# Altium schematic symbol library ETL_RB.SCHLIB: 70 symbols
Pins are listed as number, name and electrical type; pins without a type are passive.

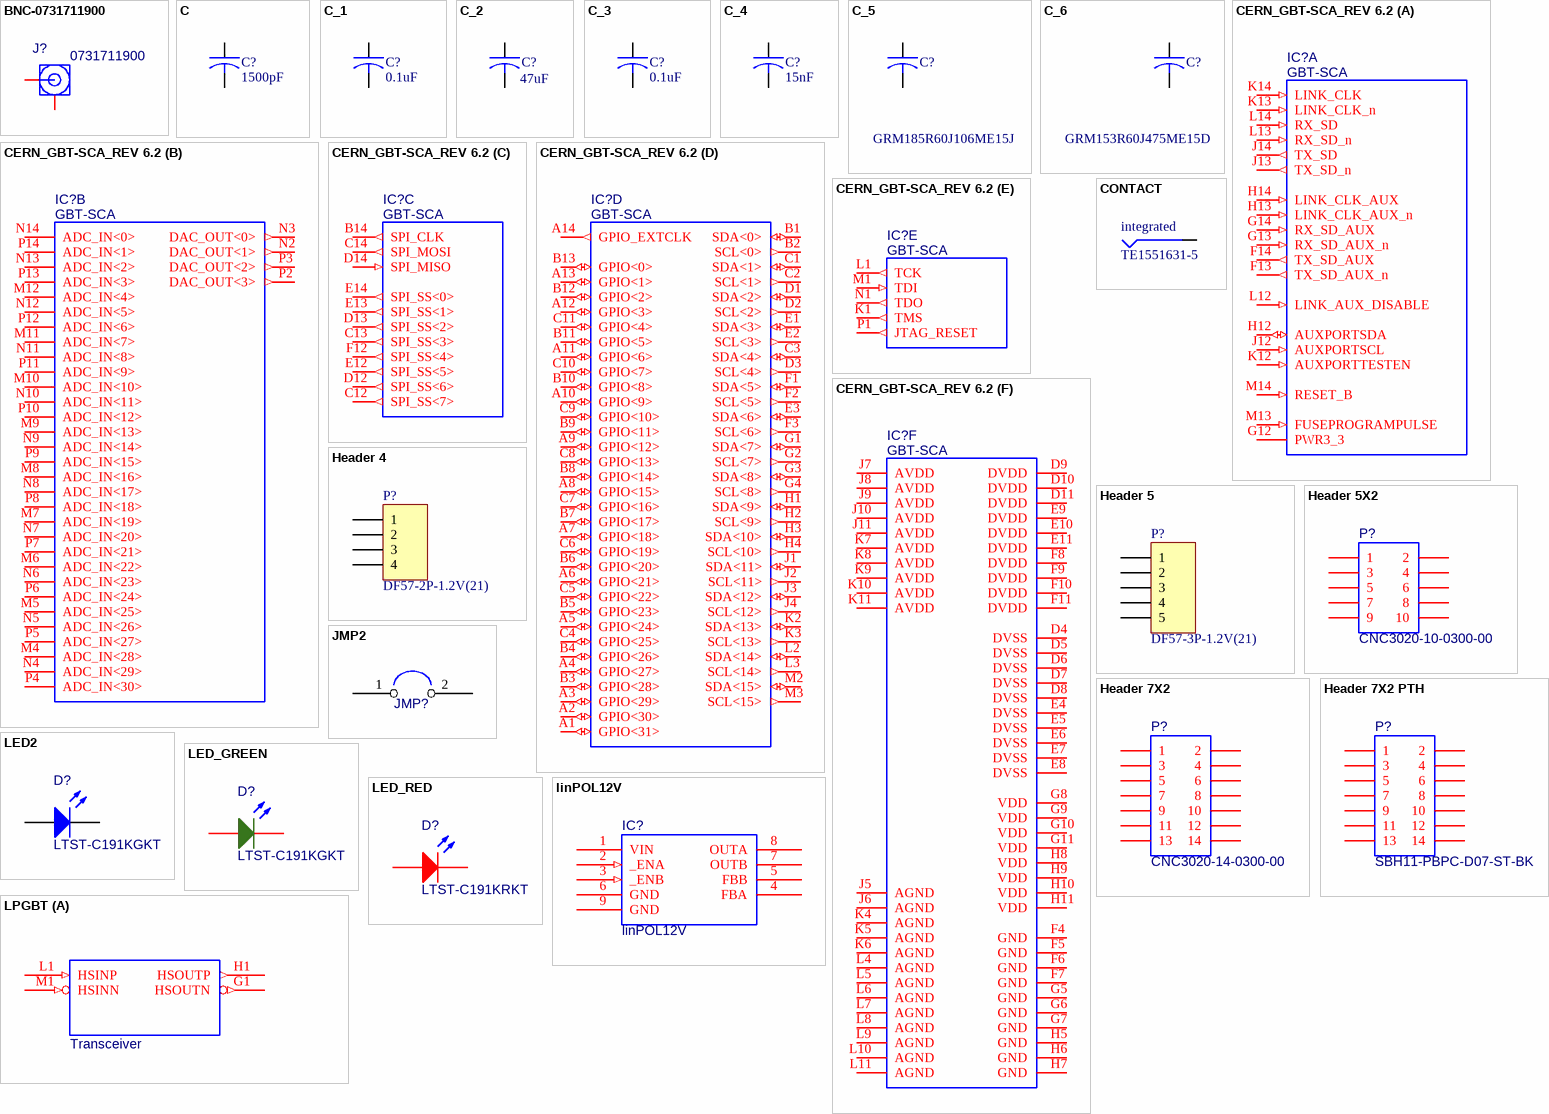
[diagram p0: symbols BNC-0731711900 to LPGBT]

## BNC-0731711900
designator J?, comment 0731711900
BNC Connector Jack, Female Socket 75Ohm Through Hole Solder
pins: 1, 2, 3, 4, 5

## C
designator C?, comment value 1500pF  (hidden comment: C0805X7R102-152MNE)
CERAMIC CAPACITOR
footprint 1206
footprint CAPC3216N (Chip Capacitor, Body 3.2x1.6mm, IPC Medium Density)
footprint venkel0805
pins: 1, 2

## C_1
designator C?, comment value 0.1uF  (hidden comment: GRM155R71E104ME14D)
CERAMIC CAPACITOR
footprint 1206
footprint capc1005n (Chip Capacitor, Body 1.0x0.5mm, IPC Medium Density)
pins: 1, 2

## C_2
designator C?, comment value 47uF  (hidden comment: GRM188R60J476ME15D)
CERAMIC CAPACITOR
footprint 1206
footprint capc2012n (Chip Capacitor, Body 2.0x1.3mm, IPC Medium Density)
pins: 1, 2

## C_3
designator C?, comment value 0.1uF  (hidden comment: GRM033R61C104KE84D)
CERAMIC CAPACITOR
footprint 1206
footprint capc1005n (Chip Capacitor, Body 1.0x0.5mm, IPC Medium Density)
footprint capc0603n (Chip Capacitor, 2-Leads, Body 0.60x0.30mm, IPC Medium Density)
pins: 1, 2

## C_4
designator C?, comment value 15nF  (hidden comment: GRM033R61C153KE84D)
CERAMIC CAPACITOR
footprint 1206
footprint capc1005n (Chip Capacitor, Body 1.0x0.5mm, IPC Medium Density)
footprint capc0603n (Chip Capacitor, 2-Leads, Body 0.60x0.30mm, IPC Medium Density)
pins: 1, 2

## C_5
designator C?, comment GRM185R60J106ME15J
CERAMIC CAPACITOR; VALUE: 10uF
footprint 1206
footprint resc1005n (Chip Resistor, Body 1.1x0.5mm, IPC Medium Density)
footprint capc1005n (Chip Capacitor, Body 1.0x0.5mm, IPC Medium Density)
footprint CAPC1608N (Chip Capacitor, Body 1.6x0.8mm, IPC Medium Density)
pins: 1, 2

## C_6
designator C?, comment GRM153R60J475ME15D
CERAMIC CAPACITOR; VALUE: 4.7uF
footprint 1206
footprint resc1005n (Chip Resistor, Body 1.1x0.5mm, IPC Medium Density)
footprint capc1005n (Chip Capacitor, Body 1.0x0.5mm, IPC Medium Density)
pins: 1, 2

## CERN_GBT-SCA_REV 6.2
designator IC?, comment GBT-SCA
The Slow Control Adapter ASIC for the GBT System; Device: GBT-SCA
footprint BGA196C80P14X14_1200X1200X170 (BGA, 0.80mm Pitch, Square; 196 Pin, 14 Columns X 14 Rows, 12.00mm X 12.00mm X 1.70mm H)
part A pins: F13 TX_SD_AUX_n (out), F14 TX_SD_AUX (out), G12 PWR3_3 (power), G13 RX_SD_AUX_n (in), G14 RX_SD_AUX (in), H12 AUXPORTSDA (io), H13 LINK_CLK_AUX_n (in), H14 LINK_CLK_AUX (in), J12 AUXPORTSCL (in), J13 TX_SD_n (out), J14 TX_SD (out), K12 AUXPORTTESTEN (in), K13 LINK_CLK_n (in), K14 LINK_CLK (in), L12 LINK_AUX_DISABLE (in), L13 RX_SD_n (in), L14 RX_SD (in), M13 FUSEPROGRAMPULSE (in), M14 RESET_B (in)
part B pins: M4 ADC_IN<28>, M5 ADC_IN<25>, M6 ADC_IN<22>, M7 ADC_IN<19>, M8 ADC_IN<16>, M9 ADC_IN<13>, M10 ADC_IN<10>, M11 ADC_IN<7>, M12 ADC_IN<4>, N2 DAC_OUT<1> (out), N3 DAC_OUT<0> (out), N4 ADC_IN<29>, N5 ADC_IN<26>, N6 ADC_IN<23>, N7 ADC_IN<20>, N8 ADC_IN<17>, N9 ADC_IN<14>, N10 ADC_IN<11>, N11 ADC_IN<8>, N12 ADC_IN<5>, N13 ADC_IN<2>, N14 ADC_IN<0>, P2 DAC_OUT<3> (out), P3 DAC_OUT<2> (out), P4 ADC_IN<30>, P5 ADC_IN<27>, P6 ADC_IN<24>, P7 ADC_IN<21>, P8 ADC_IN<18>, P9 ADC_IN<15>, P10 ADC_IN<12>, P11 ADC_IN<9>, P12 ADC_IN<6>, P13 ADC_IN<3>, P14 ADC_IN<1>
part C pins: B14 SPI_CLK (out), C12 SPI_SS<7> (out), C13 SPI_SS<3> (out), C14 SPI_MOSI (out), D12 SPI_SS<6> (out), D13 SPI_SS<2> (out), D14 SPI_MISO (in), E12 SPI_SS<5> (out), E13 SPI_SS<1> (out), E14 SPI_SS<0> (out), F12 SPI_SS<4> (out)
part D pins: A1 GPIO<31> (io), A2 GPIO<30> (io), A3 GPIO<29> (io), A4 GPIO<27> (io), A5 GPIO<24> (io), A6 GPIO<21> (io), A7 GPIO<18> (io), A8 GPIO<15> (io), A9 GPIO<12> (io), A10 GPIO<9> (io), A11 GPIO<6> (io), A12 GPIO<3> (io), A13 GPIO<1> (io), A14 GPIO_EXTCLK (out), B1 SDA<0> (io), B2 SCL<0> (out), B3 GPIO<28> (io), B4 GPIO<26> (io), B5 GPIO<23> (io), B6 GPIO<20> (io), B7 GPIO<17> (io), B8 GPIO<14> (io), B9 GPIO<11> (io), B10 GPIO<8> (io), B11 GPIO<5> (io), B12 GPIO<2> (io), B13 GPIO<0> (io), C1 SDA<1> (io), C2 SCL<1> (out), C3 SDA<4> (io), C4 GPIO<25> (io), C5 GPIO<22> (io), C6 GPIO<19> (io), C7 GPIO<16> (io), C8 GPIO<13> (io), C9 GPIO<10> (io), C10 GPIO<7> (io), C11 GPIO<4> (io), D1 SDA<2> (io), D2 SCL<2> (out), D3 SCL<4> (out), E1 SDA<3> (io), E2 SCL<3> (out), E3 SDA<6> (io), F1 SDA<5> (io), F2 SCL<5> (out), F3 SCL<6> (out), G1 SDA<7> (io), G2 SCL<7> (out), G3 SDA<8> (io), G4 SCL<8> (out), H1 SDA<9> (io), H2 SCL<9> (out), H3 SDA<10> (io), H4 SCL<10> (out), J1 SDA<11> (io), J2 SCL<11> (out), J3 SDA<12> (io), J4 SCL<12> (out), K2 SDA<13> (io), K3 SCL<13> (out), L2 SDA<14> (io), L3 SCL<14> (out), M2 SDA<15> (io), M3 SCL<15> (out)
part E pins: K1 TMS (out), L1 TCK (out), M1 TDI (in), N1 TDO (out), P1 JTAG_RESET (out)
part F pins: D4 DVSS (power), D5 DVSS (power), D6 DVSS (power), D7 DVSS (power), D8 DVSS (power), D9 DVDD (power), D10 DVDD (power), D11 DVDD (power), E4 DVSS (power), E5 DVSS (power), E6 DVSS (power), E7 DVSS (power), E8 DVSS (power), E9 DVDD (power), E10 DVDD (power), E11 DVDD (power), F4 GND (power), F5 GND (power), F6 GND (power), F7 GND (power), F8 DVDD (power), F9 DVDD (power), F10 DVDD (power), F11 DVDD (power), G5 GND (power), G6 GND (power), G7 GND (power), G8 VDD (power), G9 VDD (power), G10 VDD (power), G11 VDD (power), H5 GND (power), H6 GND (power), H7 GND (power), H8 VDD (power), H9 VDD (power), H10 VDD (power), H11 VDD (power), J5 AGND (power), J6 AGND (power), J7 AVDD (power), J8 AVDD (power), J9 AVDD (power), J10 AVDD (power), J11 AVDD (power), K4 AGND (power), K5 AGND (power), K6 AGND (power), K7 AVDD (power), K8 AVDD (power), K9 AVDD (power), K10 AVDD (power), K11 AVDD (power), L4 AGND (power), L5 AGND (power), L6 AGND (power), L7 AGND (power), L8 AGND (power), L9 AGND (power), L10 AGND (power), L11 AGND (power)

## CONTACT
designator integrated, comment TE1551631-5
footprint contact
pins: 1 (power)

## Header 4
designator P?, comment DF57-2P-1.2V(21)
Header, 4-Pin; LatestRevisionDate: 17-Jul-2002; LatestRevisionNote: Re-released for DXP Platform.; Publisher: Altium Limited
footprint HDR1X4 (Connector; Header; 4 Position)
signal-integrity model Connector
footprint BF57-2 (Footprint not found)
footprint DF57-2
pins: 1, 2, 3, 4

## Header 5
designator P?, comment DF57-3P-1.2V(21)
Header, 5-Pin; LatestRevisionDate: 17-Jul-2002; LatestRevisionNote: Re-released for DXP Platform.; Publisher: Altium Limited
footprint HDR1X5 (Connector; Header; 5 Position)
signal-integrity model Connector
footprint DF57-3
footprint df52-3
footprint DF57-3
pins: 1, 2, 3, 4, 5

## Header 5X2
designator P?, comment CNC3020-10-0300-00
Header, 5-Pin, Dual row; LatestRevisionDate: 17-Jul-2002; LatestRevisionNote: Re-released for DXP Platform.; Publisher: Altium Limited
footprint HDR2X5 (Connector; Header; 5x2 Position)
signal-integrity model Connector
footprint cnc10
pins: 1, 2, 3, 4, 5, 6, 7, 8, 9, 10

## Header 7X2
designator P?, comment CNC3020-14-0300-00
Header, 7-Pin, Dual row; LatestRevisionDate: 17-Jul-2002; LatestRevisionNote: Re-released for DXP Platform.; Publisher: Altium Limited
footprint HDR2X7 (Connector; Header; 7x2 Position)
signal-integrity model Connector
footprint cnc14
pins: 1, 2, 3, 4, 5, 6, 7, 8, 9, 10, 11, 12, 13, 14

## Header 7X2 PTH
designator P?, comment SBH11-PBPC-D07-ST-BK
Header, 7-Pin, Dual row
footprint HEADER 7x2 PTH
pins: 1, 2, 3, 4, 5, 6, 7, 8, 9, 10, 11, 12, 13, 14

## JMP2
designator JMP?, comment Not a component, printed on PCB  (value not drawn)  (no BOM)
printed on PCB
footprint JMP2
footprint JMP2B
footprint JMP2PCB
pins: 1, 2

## LED2
designator D?, comment LTST-C191KGKT
Typical RED, GREEN, YELLOW, AMBER GaAs LED; Published: 8-Jun-2000; LatestRevisionDate: 17-Jul-2002; LatestRevisionNote: Re-released for DXP Platform.; PackageVersion: Feb-2002; PackageReference: 3.2X1.6X1.1; Publisher: Altium Limited; PackageDescription: SM LED; 2 Flat Leads
footprint 3.2X1.6X1.1 (SMT LED; 2 Flat Leads)
simulation model LED2 (Diode)
footprint LED_RED (LTST-C194KRKT)
pins: 1 A, 2 K

## LED_GREEN
designator D?, comment LTST-C191KGKT
Typical RED, GREEN, YELLOW, AMBER GaAs LED; Published: 8-Jun-2000; LatestRevisionDate: 17-Jul-2002; LatestRevisionNote: Re-released for DXP Platform.; PackageVersion: Feb-2002; PackageReference: 3.2X1.6X1.1; Publisher: Altium Limited; PackageDescription: SM LED; 2 Flat Leads
footprint 3.2X1.6X1.1 (SMT LED; 2 Flat Leads)
simulation model LED2 (Diode)
footprint LED_RED (LTST-C194KRKT)
pins: 1 A, 2 K

## LED_RED
designator D?, comment LTST-C191KRKT
Typical RED, GREEN, YELLOW, AMBER GaAs LED; Published: 8-Jun-2000; LatestRevisionDate: 17-Jul-2002; LatestRevisionNote: Re-released for DXP Platform.; PackageVersion: Feb-2002; PackageReference: 3.2X1.6X1.1; Publisher: Altium Limited; PackageDescription: SM LED; 2 Flat Leads
footprint 3.2X1.6X1.1 (SMT LED; 2 Flat Leads)
simulation model LED2 (Diode)
footprint LED_RED (LTST-C194KRKT)
pins: 1 A, 2 K

## linPOL12V
designator IC?
footprint WDFNX208
pins: 1 VIN (power), 2 _ENA (in), 3 _ENB (in), 4 FBA, 5 FBB, 6 GND (power), 7 OUTB (power), 8 OUTA (power), 9 GND (power)

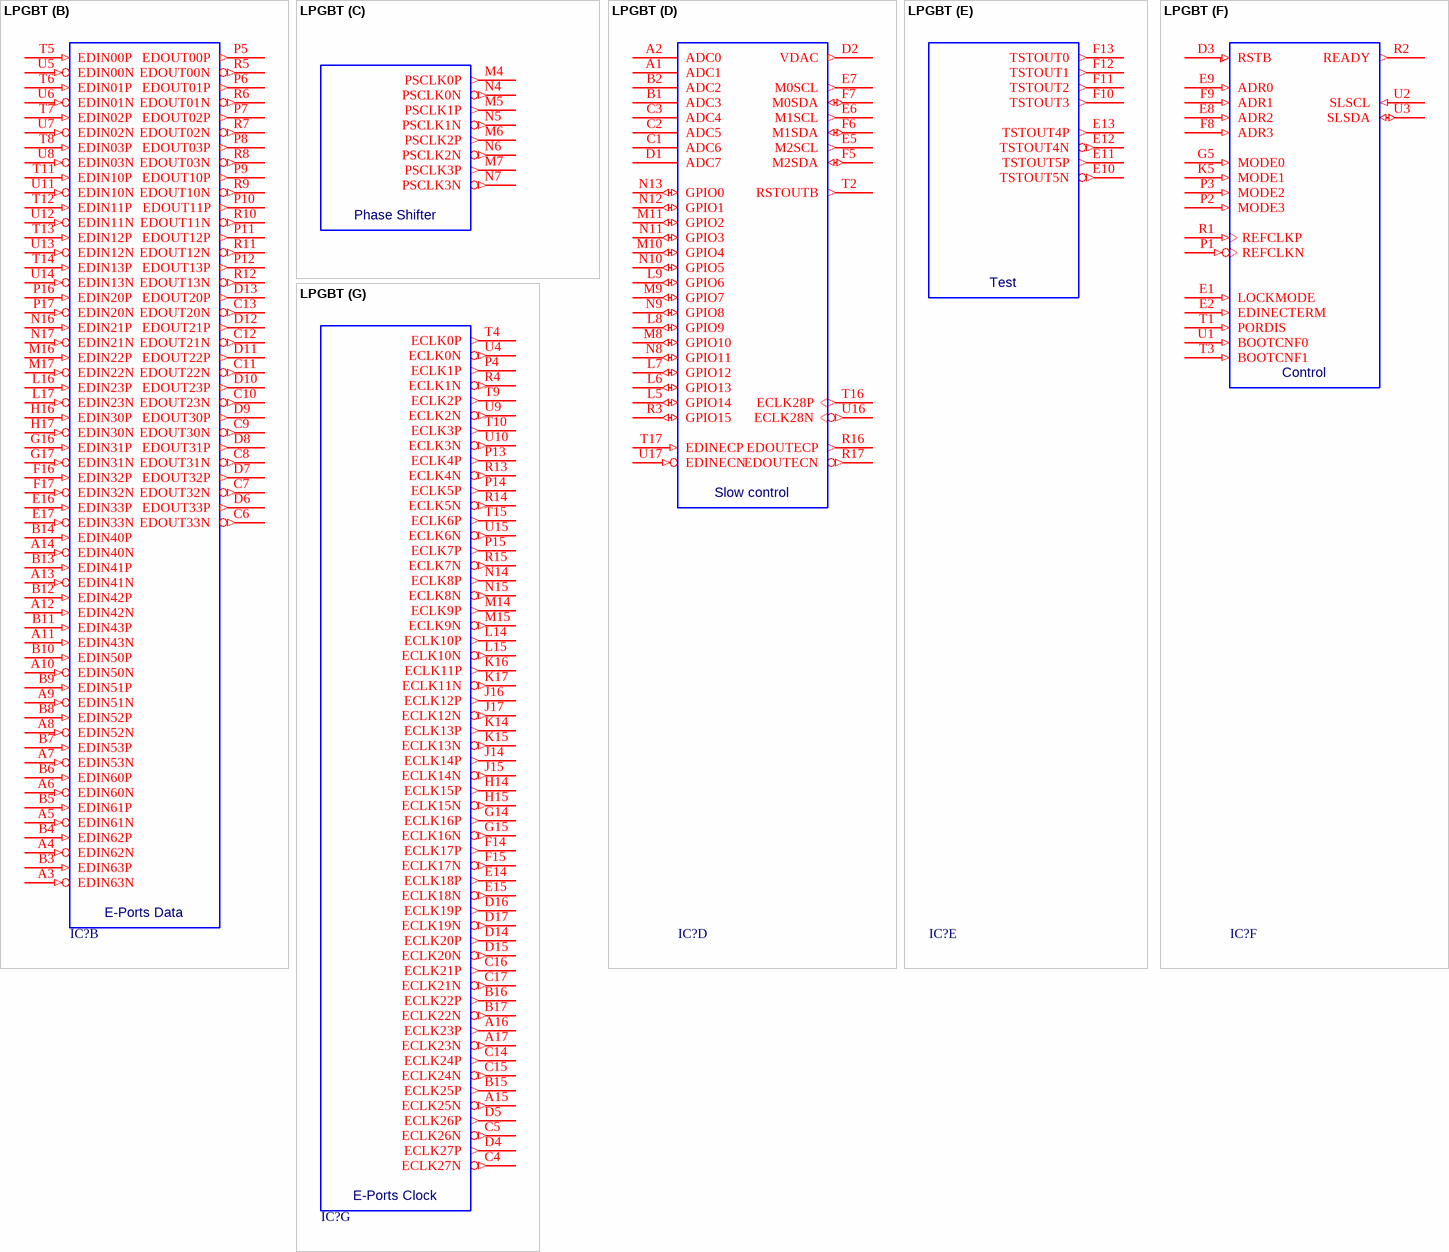
[diagram p1: symbol LPGBT]

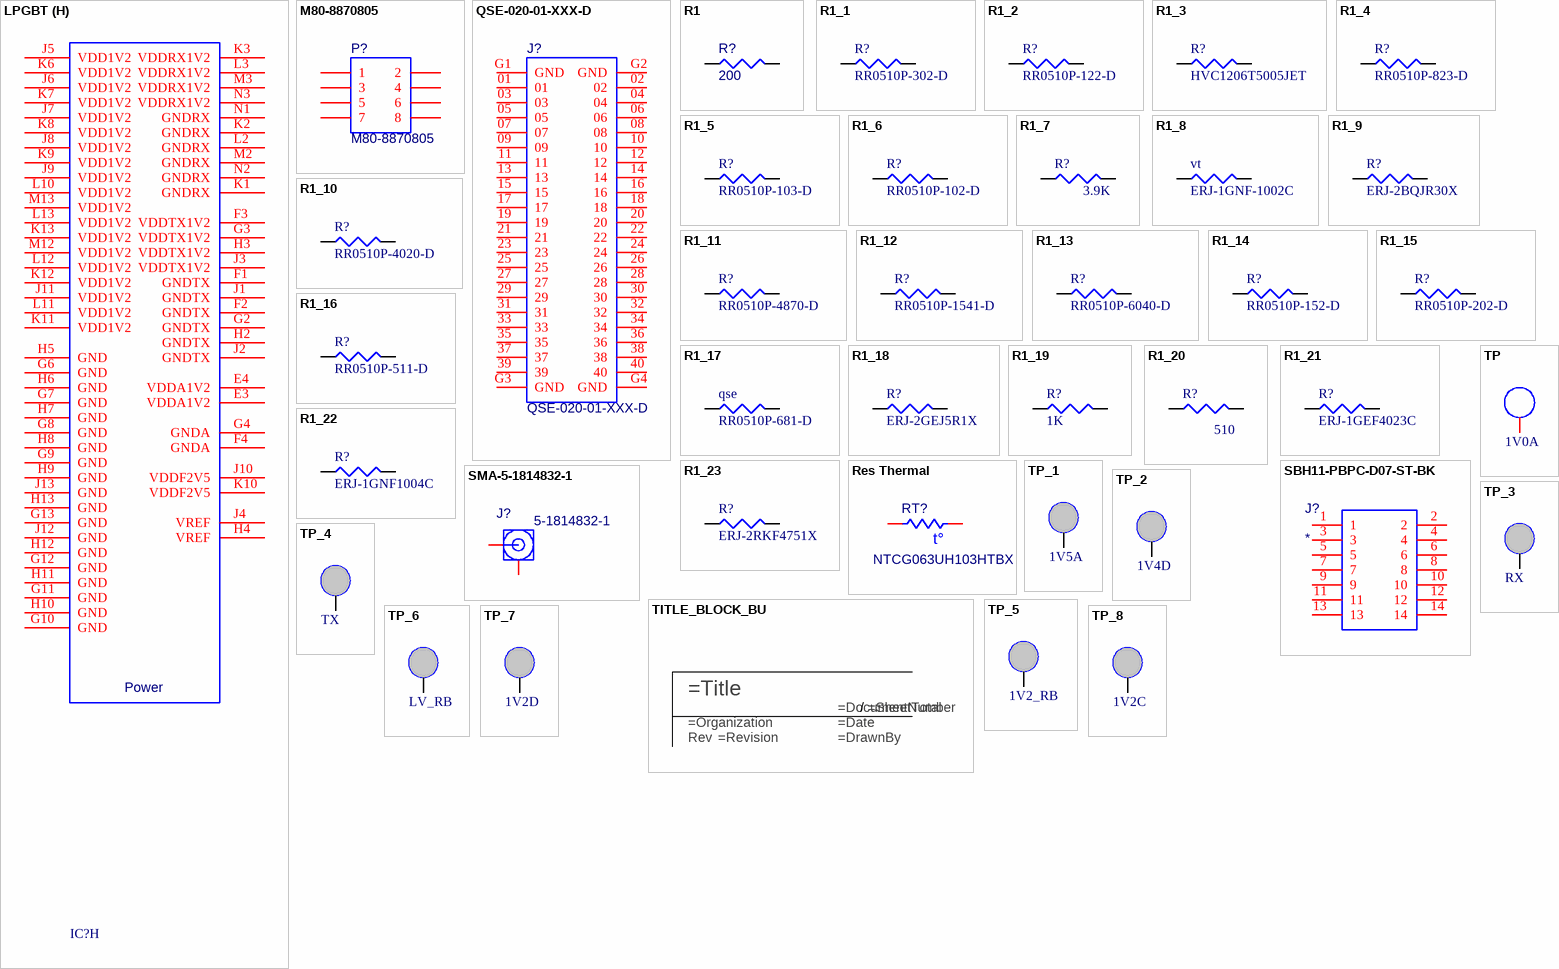
[diagram p2: symbols LPGBT to TP_8]

## LPGBT
designator IC?  (value not drawn)
Low Power Gigabit Transceiver; Manufacturer: CERN; Pinout Version: 180226; Bonding: No; Device: LPGBT; Manufacturer Part Number: LPGBT; SMD: Yes; Mounted: Yes; LatestRevisionDate: 26.10.2018; PackageDescription: BGA, 289-Leads, Body 9.00x9.00mmx1.28mm, Pitch 0.50mm; Part Description: Low Power Gigabit Transceiver; Case: BGA289; Part Number: LPGBT; Pin Count: 289; Socket: No; Component Kind: Standard; Component Type: Standard; Footprint: BGA289C50P17X17_900X900X128
footprint BGA289C50P17X17_900X900X128 (BGA, 289-Leads, Body 9.00x9.00mmx1.28mm, Pitch 0.50mm)
footprint BGA289X17
part A pins: G1 HSOUTN (out) "Transceiver Output", H1 HSOUTP (out) "Transceiver Output", L1 HSINP (in) "Transceiver Input", M1 HSINN (in) "Transceiver Input"
part B pins: A3 EDIN63N (in), A4 EDIN62N (in), A5 EDIN61N (in), A6 EDIN60N (in), A7 EDIN53N (in), A8 EDIN52N (in), A9 EDIN51N (in), A10 EDIN50N (in), A11 EDIN43N (in), A12 EDIN42N (in), A13 EDIN41N (in), A14 EDIN40N (in), B3 EDIN63P (in), B4 EDIN62P (in), B5 EDIN61P (in), B6 EDIN60P (in), B7 EDIN53P (in), B8 EDIN52P (in), B9 EDIN51P (in), B10 EDIN50P (in), B11 EDIN43P (in), B12 EDIN42P (in), B13 EDIN41P (in), B14 EDIN40P (in), C6 EDOUT33N (out), C7 EDOUT32N (out), C8 EDOUT31N (out), C9 EDOUT30N (out), C10 EDOUT23N (out), C11 EDOUT22N (out), C12 EDOUT21N (out), C13 EDOUT20N (out), D6 EDOUT33P (out), D7 EDOUT32P (out), D8 EDOUT31P (out), D9 EDOUT30P (out), D10 EDOUT23P (out), D11 EDOUT22P (out), D12 EDOUT21P (out), D13 EDOUT20P (out), E16 EDIN33P (in), E17 EDIN33N (in), F16 EDIN32P (in), F17 EDIN32N (in), G16 EDIN31P (in), G17 EDIN31N (in), H16 EDIN30P (in), H17 EDIN30N (in), L16 EDIN23P (in), L17 EDIN23N (in), M16 EDIN22P (in), M17 EDIN22N (in), N16 EDIN21P (in), N17 EDIN21N (in), P5 EDOUT00P (out), P6 EDOUT01P (out), P7 EDOUT02P (out), P8 EDOUT03P (out), P9 EDOUT10P (out), P10 EDOUT11P (out), P11 EDOUT12P (out), P12 EDOUT13P (out), P16 EDIN20P (in), P17 EDIN20N (in), R5 EDOUT00N (out), R6 EDOUT01N (out), R7 EDOUT02N (out), R8 EDOUT03N (out), R9 EDOUT10N (out), R10 EDOUT11N (out), R11 EDOUT12N (out), R12 EDOUT13N (out), T5 EDIN00P (in), T6 EDIN01P (in), T7 EDIN02P (in), T8 EDIN03P (in), T11 EDIN10P (in), T12 EDIN11P (in), T13 EDIN12P (in), T14 EDIN13P (in), U5 EDIN00N (in), U6 EDIN01N (in), U7 EDIN02N (in), U8 EDIN03N (in), U11 EDIN10N (in), U12 EDIN11N (in), U13 EDIN12N (in), U14 EDIN13N (in)
part C pins: M4 PSCLK0P (out) "Phase shifter", M5 PSCLK1P (out) "Phase shifter", M6 PSCLK2P (out) "Phase shifter", M7 PSCLK3P (out) "Phase shifter", N4 PSCLK0N (out) "Phase shifter", N5 PSCLK1N (out) "Phase shifter", N6 PSCLK2N (out) "Phase shifter", N7 PSCLK3N (out) "Phase shifter"
part D pins: A1 ADC1 "ADC Input", A2 ADC0 "ADC Input", B1 ADC3 "ADC Input", B2 ADC2 "ADC Input", C1 ADC6 "ADC Input", C2 ADC5 "ADC Input", C3 ADC4 "ADC Input", D1 ADC7 "ADC Input", D2 VDAC (out) "DAC output", E5 M2SCL (out) "I2C Master", E6 M1SCL (out) "I2C Master", E7 M0SCL (out) "I2C Master", F5 M2SDA (io) "I2C Master", F6 M1SDA (io) "I2C Master", F7 M0SDA (io) "I2C Master", L5 GPIO14 (io), L6 GPIO13 (io), L7 GPIO12 (io), L8 GPIO9 (io), L9 GPIO6 (io), M8 GPIO10 (io), M9 GPIO7 (io), M10 GPIO4 (io), M11 GPIO2 (io), N8 GPIO11 (io), N9 GPIO8 (io), N10 GPIO5 (io), N11 GPIO3 (io), N12 GPIO1 (io), N13 GPIO0 (io), R3 GPIO15 (io), R16 EDOUTECP (out), R17 EDOUTECN (out), T2 RSTOUTB (out), T16 ECLK28P (out), T17 EDINECP (in), U16 ECLK28N (out), U17 EDINECN (in)
part E pins: E10 TSTOUT5N (out), E11 TSTOUT5P (out), E12 TSTOUT4N (out), E13 TSTOUT4P (out), F10 TSTOUT3 (out), F11 TSTOUT2 (out), F12 TSTOUT1 (out), F13 TSTOUT0 (out)
part F pins: D3 RSTB (in) "Reset", E1 LOCKMODE (in), E2 EDINECTERM (in), E8 ADR2 (in), E9 ADR0 (in), F8 ADR3 (in), F9 ADR1 (in), G5 MODE0 (in), K5 MODE1 (in), P1 REFCLKN (in), P2 MODE3 (in), P3 MODE2 (in), R1 REFCLKP (in), R2 READY (out), T1 PORDIS (in), T3 BOOTCNF1 (in), U1 BOOTCNF0 (in), U2 SLSCL (in) "I2C Slave", U3 SLSDA (io) "I2C Slave"
part G pins: A15 ECLK25N (out), A16 ECLK23P (out), A17 ECLK23N (out), B15 ECLK25P (out), B16 ECLK22P (out), B17 ECLK22N (out), C4 ECLK27N (out), C5 ECLK26N (out), C14 ECLK24P (out), C15 ECLK24N (out), C16 ECLK21P (out), C17 ECLK21N (out), D4 ECLK27P (out), D5 ECLK26P (out), D14 ECLK20P (out), D15 ECLK20N (out), D16 ECLK19P (out), D17 ECLK19N (out), E14 ECLK18P (out), E15 ECLK18N (out), F14 ECLK17P (out), F15 ECLK17N (out), G14 ECLK16P (out), G15 ECLK16N (out), H14 ECLK15P (out), H15 ECLK15N (out), J14 ECLK14P (out), J15 ECLK14N (out), J16 ECLK12P (out), J17 ECLK12N (out), K14 ECLK13P (out), K15 ECLK13N (out), K16 ECLK11P (out), K17 ECLK11N (out), L14 ECLK10P (out), L15 ECLK10N (out), M14 ECLK9P (out), M15 ECLK9N (out), N14 ECLK8P (out), N15 ECLK8N (out), P4 ECLK1P (out), P13 ECLK4P (out), P14 ECLK5P (out), P15 ECLK7P (out), R4 ECLK1N (out), R13 ECLK4N (out), R14 ECLK5N (out), R15 ECLK7N (out), T4 ECLK0P (out), T9 ECLK2P (out), T10 ECLK3P (out), T15 ECLK6P (out), U4 ECLK0N (out), U9 ECLK2N (out), U10 ECLK3N (out), U15 ECLK6N (out)
part H pins: E3 VDDA1V2 (power) "ADC supply", E4 VDDA1V2 (power) "ADC supply", F1 GNDTX (power) "Transmitter reference", F2 GNDTX (power) "Transmitter reference", F3 VDDTX1V2 (power) "Transmitter supply", F4 GNDA (power) "ADC reference", G2 GNDTX (power) "Transmitter reference", G3 VDDTX1V2 (power) "Transmitter supply", G4 GNDA (power) "ADC reference", G6 GND (power) "Core reference", G7 GND (power) "Core reference", G8 GND (power) "Core reference", G9 GND (power) "Core reference", G10 GND (power) "I/O reference", G11 GND (power) "I/O reference", G12 GND (power) "I/O reference", G13 GND (power) "I/O reference", H2 GNDTX (power) "Transmitter reference", H3 VDDTX1V2 (power) "Transmitter supply", H4 VREF (power) "ADC reference", H5 GND (power) "Core reference", H6 GND (power) "Core reference", H7 GND (power) "Core reference", H8 GND (power) "Core reference", H9 GND (power) "Core reference", H10 GND (power) "I/O reference", H11 GND (power) "I/O reference", H12 GND (power) "I/O reference", H13 GND (power) "I/O reference", J1 GNDTX (power) "Transmitter reference", J2 GNDTX (power) "Transmitter reference", J3 VDDTX1V2 (power) "Transmitter supply", J4 VREF (power) "ADC reference", J5 VDD1V2 (power) "Core supply", J6 VDD1V2 (power) "Core supply", J7 VDD1V2 (power) "Core supply", J8 VDD1V2 (power) "Core supply", J9 VDD1V2 (power) "Core supply", J10 VDDF2V5 (power) "Efuse supply", J11 VDD1V2 (power) "I/O supply", J12 GND (power) "I/O reference", J13 GND (power) "I/O reference", K1 GNDRX (power) "Receiver reference", K2 GNDRX (power) "Receiver reference", K3 VDDRX1V2 (power) "Receiver supply", K6 VDD1V2 (power) "Core supply", K7 VDD1V2 (power) "Core supply", K8 VDD1V2 (power) "Core supply", K9 VDD1V2 (power) "Core supply", K10 VDDF2V5 (power) "Efuse supply", K11 VDD1V2 (power) "I/O supply", K12 VDD1V2 (power) "I/O supply", K13 VDD1V2 (power) "I/O supply", L2 GNDRX (power) "Receiver reference", L3 VDDRX1V2 (power) "Receiver supply", L10 VDD1V2 (power) "I/O supply", L11 VDD1V2 (power) "I/O supply", L12 VDD1V2 (power) "I/O supply", L13 VDD1V2 (power) "I/O supply", M2 GNDRX (power) "Receiver reference", M3 VDDRX1V2 (power) "Receiver supply", M12 VDD1V2 (power) "I/O supply", M13 VDD1V2 (power) "I/O supply", N1 GNDRX (power) "Receiver reference", N2 GNDRX (power) "Receiver reference", N3 VDDRX1V2 (power) "Receiver supply"
part A text: Transceiver
part B text: E-Ports Data
part C text: Phase Shifter
part D text: Slow control
part E text: Test
part F text: Control
part G text: E-Ports Clock
part H text: Power

## M80-8870805
designator P?
Header, 4x2-Pin, Dual row
footprint M80-8870805
pins: 1, 2, 3, 4, 5, 6, 7, 8

## QSE-020-01-XXX-D
designator J?
40 Position Connector Receptacle, Center Strip Contacts Surface Mount Gold; MF: Samtec; MP: QSE-020-01-F-D; SnapEDA_Link: https://www.snapeda.com/parts/QSE-020-01-F-D/Samtec/view-part/1737145/?ref=snap; Value: *; Availability: Bad; Price: None; Toby_UK-Purchase-URL: https://snapeda.com/shop?store=Toby+UK&id=1737145; Package: MAPBGA-624 Samtec
footprint SAMTEC_QSE-020-01-XXX-D
footprint SAMTEC_QSE-020-01-XXX-D
pins: 01, 02, 03, 04, 05, 06, 07, 08, 09, 10, 11, 12, 13, 14, 15, 16, 17, 18, 19, 20, 21, 22, 23, 24, 25, 26, 27, 28, 29, 30, 31, 32, 33, 34, 35, 36, 37, 38, 39, 40, G1 GND (power), G2 GND (power), G3 GND (power), G4 GND (power)

## R1
designator R?, comment Parameter 1: 200  (hidden comment: ERJ-2GEJ201X)
FILM RESISTOR; Text Field2: 5%
footprint 0805
footprint r0402 (Resistor, Chip, 1005 [0402], RLP#100A)
footprint resc1005n (Chip Resistor, Body 1.1x0.5mm, IPC Medium Density)
pins: 1, 2

## R1_1
designator R?, comment RR0510P-302-D
FILM RESISTOR; Text Field2: 1%
footprint 0805
footprint r0402 (Resistor, Chip, 1005 [0402], RLP#100A)
footprint resc1005n (Chip Resistor, Body 1.1x0.5mm, IPC Medium Density)
pins: 1, 2

## R1_2
designator R?, comment RR0510P-122-D
FILM RESISTOR; Text Field2: 1%
footprint 0805
footprint r0402 (Resistor, Chip, 1005 [0402], RLP#100A)
footprint resc1005n (Chip Resistor, Body 1.1x0.5mm, IPC Medium Density)
pins: 1, 2

## R1_3
designator R?, comment HVC1206T5005JET
FILM RESISTOR; Text Field2: 1%
footprint 0805
footprint r0402 (Resistor, Chip, 1005 [0402], RLP#100A)
footprint resc3216n (Chip Resistor, Body 3.2x1.6mm, IPC Medium Density)
pins: 1, 2

## R1_4
designator R?, comment RR0510P-823-D
FILM RESISTOR; Text Field2: 1%
footprint 0805
footprint r0402 (Resistor, Chip, 1005 [0402], RLP#100A)
footprint resc1005n (Chip Resistor, Body 1.1x0.5mm, IPC Medium Density)
pins: 1, 2

## R1_5
designator R?, comment RR0510P-103-D
FILM RESISTOR; Text Field2: 1%
footprint 0805
footprint r0402 (Resistor, Chip, 1005 [0402], RLP#100A)
footprint resc1005n (Chip Resistor, Body 1.1x0.5mm, IPC Medium Density)
pins: 1, 2

## R1_6
designator R?, comment RR0510P-102-D
FILM RESISTOR; Text Field2: 1%
footprint 0805
footprint r0402 (Resistor, Chip, 1005 [0402], RLP#100A)
footprint resc1005n (Chip Resistor, Body 1.1x0.5mm, IPC Medium Density)
pins: 1, 2

## R1_7
designator R?, comment Parameter 1: 3.9K  (hidden comment: ERJ-2GEJ392X)
FILM RESISTOR; Text Field2: 5%
footprint 0805
footprint r0402 (Resistor, Chip, 1005 [0402], RLP#100A)
footprint resc1005n (Chip Resistor, Body 1.1x0.5mm, IPC Medium Density)
pins: 1, 2

## R1_8
designator vt, comment ERJ-1GNF-1002C
FILM RESISTOR; Text Field2: 1%
footprint 0805
footprint r0402 (Resistor, Chip, 1005 [0402], RLP#100A)
footprint resc1005n (Chip Resistor, Body 1.1x0.5mm, IPC Medium Density)
footprint resc0603
pins: 1, 2

## R1_9
designator R?, comment ERJ-2BQJR30X
FILM RESISTOR; Text Field2: 1%
footprint 0805
footprint r0402 (Resistor, Chip, 1005 [0402], RLP#100A)
footprint resc1005n (Chip Resistor, Body 1.1x0.5mm, IPC Medium Density)
pins: 1, 2

## R1_10
designator R?, comment RR0510P-4020-D
FILM RESISTOR; Text Field2: 1%
footprint 0805
footprint r0402 (Resistor, Chip, 1005 [0402], RLP#100A)
footprint resc1005n (Chip Resistor, Body 1.1x0.5mm, IPC Medium Density)
pins: 1, 2

## R1_11
designator R?, comment RR0510P-4870-D
FILM RESISTOR; Text Field2: 1%
footprint 0805
footprint r0402 (Resistor, Chip, 1005 [0402], RLP#100A)
footprint resc1005n (Chip Resistor, Body 1.1x0.5mm, IPC Medium Density)
pins: 1, 2

## R1_12
designator R?, comment RR0510P-1541-D
FILM RESISTOR; Text Field2: 1%
footprint 0805
footprint r0402 (Resistor, Chip, 1005 [0402], RLP#100A)
footprint resc1005n (Chip Resistor, Body 1.1x0.5mm, IPC Medium Density)
pins: 1, 2

## R1_13
designator R?, comment RR0510P-6040-D
FILM RESISTOR; Text Field2: 1%
footprint 0805
footprint r0402 (Resistor, Chip, 1005 [0402], RLP#100A)
footprint resc1005n (Chip Resistor, Body 1.1x0.5mm, IPC Medium Density)
pins: 1, 2

## R1_14
designator R?, comment RR0510P-152-D
FILM RESISTOR; Text Field2: 1%
footprint 0805
footprint r0402 (Resistor, Chip, 1005 [0402], RLP#100A)
footprint resc1005n (Chip Resistor, Body 1.1x0.5mm, IPC Medium Density)
pins: 1, 2

## R1_15
designator R?, comment RR0510P-202-D
FILM RESISTOR; Text Field2: 1%
footprint 0805
footprint r0402 (Resistor, Chip, 1005 [0402], RLP#100A)
footprint resc1005n (Chip Resistor, Body 1.1x0.5mm, IPC Medium Density)
pins: 1, 2

## R1_16
designator R?, comment RR0510P-511-D
FILM RESISTOR; Text Field2: 1%
footprint 0805
footprint r0402 (Resistor, Chip, 1005 [0402], RLP#100A)
footprint resc1005n (Chip Resistor, Body 1.1x0.5mm, IPC Medium Density)
pins: 1, 2

## R1_17
designator qse, comment RR0510P-681-D
FILM RESISTOR; Text Field2: 1%
footprint 0805
footprint r0402 (Resistor, Chip, 1005 [0402], RLP#100A)
footprint resc1005n (Chip Resistor, Body 1.1x0.5mm, IPC Medium Density)
pins: 1, 2

## R1_18
designator R?, comment ERJ-2GEJ5R1X
FILM RESISTOR; Text Field2: 1%
footprint 0805
footprint r0402 (Resistor, Chip, 1005 [0402], RLP#100A)
footprint resc1005n (Chip Resistor, Body 1.1x0.5mm, IPC Medium Density)
pins: 1, 2

## R1_19
designator R?, comment Parameter 1: 1K  (hidden comment: ERJ-2GEJ102X)
FILM RESISTOR; Text Field2: 5%
footprint 0805
footprint r0402 (Resistor, Chip, 1005 [0402], RLP#100A)
footprint resc1005n (Chip Resistor, Body 1.1x0.5mm, IPC Medium Density)
pins: 1, 2

## R1_20
designator R?, comment Parameter 1: 510  (hidden comment: ERJ-2GEJ511X)
FILM RESISTOR; Text Field2: 5%
footprint 0805
footprint r0402 (Resistor, Chip, 1005 [0402], RLP#100A)
footprint resc1005n (Chip Resistor, Body 1.1x0.5mm, IPC Medium Density)
pins: 1, 2

## R1_21
designator R?, comment ERJ-1GEF4023C
FILM RESISTOR; Text Field2: 1%; Parameter 1: 402K
footprint 0805
footprint r0402 (Resistor, Chip, 1005 [0402], RLP#100A)
footprint resc1005n (Chip Resistor, Body 1.1x0.5mm, IPC Medium Density)
footprint resc0603
pins: 1, 2

## R1_22
designator R?, comment ERJ-1GNF1004C
FILM RESISTOR; Text Field2: 1%; Parameter 1: 1M
footprint 0805
footprint r0402 (Resistor, Chip, 1005 [0402], RLP#100A)
footprint resc1005n (Chip Resistor, Body 1.1x0.5mm, IPC Medium Density)
footprint resc0603
pins: 1, 2

## R1_23
designator R?, comment ERJ-2RKF4751X
FILM RESISTOR; Text Field2: 1%; Parameter 1: 4.75K
footprint 0805
footprint r0402 (Resistor, Chip, 1005 [0402], RLP#100A)
footprint resc1005n (Chip Resistor, Body 1.1x0.5mm, IPC Medium Density)
pins: 1, 2

## Res Thermal
designator RT?, comment NTCG063UH103HTBX
Thermistor; Published: 24-Mar-1999; LatestRevisionNote: IPC-7351 Footprint Added.; PackageVersion: Mar-2003; PackageReference: 6-0805; Publisher: Altium Limited; PackageDescription: Chip Resistor 0805 Case Size; Code_IPC: RESC2012; LatestRevisionDate: 29-May-2009
footprint 6-0805_N (Chip Resistor, Body 2.0x1.2mm, IPC Medium Density)
footprint 6-0805_L (Chip Resistor, Body 2.0x1.2mm, IPC High Density)
footprint 6-0805_M (Chip Resistor, Body 2.0x1.2mm, IPC Low Density)
footprint resc0603
pins: 1, 2
text: t°

## SBH11-PBPC-D07-ST-BK
designator J?
Connector; Manufacturer_Name: Sullins; Manufacturer_Part_Number: SBH11-PBPC-D07-ST-BK; Datasheet Link: https://drawings-pdf.s3.amazonaws.com/11091.pdf; Height: 9.1mm
footprint SHDR14W64P254_2X7_2528X910X910P
footprint SHDR14W64P254_2X7_2528X910X910P
pins: 1, 2, 3, 4, 5, 6, 7, 8, 9, 10, 11, 12, 13, 14

## SMA-5-1814832-1
designator J?, comment 5-1814832-1
SMA Connector, Pitch 5.08 mm, 1 Position, Height 9.5 mm, Tail Length 4 mm, -65 to 165 degC, RoHS, Bulk; Manufacturer: TE Connectivity; Connector Mounting: PCBMount; Connector Body Style: StraightJack; Impedance: 50ohm; Coaxial Termination: Solder; SVHC: NoSVHC(15-Jun-2015); Frequency Max: 3GHz; Product Range: ZDCSeries; Connector Type: SMACoaxial; Datasheet Version: Rev. B1, 03/2011; Package Reference: 5-1814832-1; Package Description: SMA Connector, Pitch 5.08 mm, 1 Position, Height 9.5 mm, Tail Length 4 mm; Contact Plating: GoldPlatedContacts; Coaxial Cable Types: -; Contact Material: BerylliumCopper; Manufacturer URL: http://www.te.com/; Datasheet URL: http://www.onlinecomponents.com/productFiles/mf-AMP/eng_cd_1814832_a.pdf
footprint SMA-5-1814832-1 (CONN SMA JACK STR 50 OHM PCB)
pins: 1, 2, 3, 4, 5

## TITLE_BLOCK_BU
designator TBLOCK?, comment BU Title block  (value not drawn)  (graphical)
text: /; Rev

## TP
designator TP?, comment 1V0A  (no BOM)
TEST POINT 40MIL DIA.
footprint TESTPOINT
footprint testpoint
footprint TESTPOINT
pins: 1 TP

## TP_1
designator TP?, comment 1V5A  (no BOM)
TEST POINT 40MIL DIA.
footprint TESTPOINT
footprint testpoint
footprint TESTPOINT
pins: 1 TP

## TP_2
designator TP?, comment 1V4D  (no BOM)
TEST POINT 40MIL DIA.
footprint TESTPOINT
footprint testpoint
footprint TESTPOINT
pins: 1 TP

## TP_3
designator TP?, comment RX  (no BOM)
TEST POINT 40MIL DIA.
footprint TESTPOINT
footprint testpoint
footprint TESTPOINT
pins: 1 TP

## TP_4
designator TP?, comment TX  (no BOM)
TEST POINT 40MIL DIA.
footprint TESTPOINT
footprint testpoint
footprint TESTPOINT
pins: 1 TP

## TP_5
designator TP?, comment 1V2_RB  (no BOM)
TEST POINT 40MIL DIA.
footprint TESTPOINT
footprint testpoint
footprint TESTPOINT
pins: 1 TP

## TP_6
designator TP?, comment LV_RB  (no BOM)
TEST POINT 40MIL DIA.
footprint TESTPOINT
footprint testpoint
footprint TESTPOINT
pins: 1 TP

## TP_7
designator TP?, comment 1V2D  (no BOM)
TEST POINT 40MIL DIA.
footprint TESTPOINT
footprint testpoint
footprint TESTPOINT
pins: 1 TP

## TP_8
designator TP?, comment 1V2C  (no BOM)
TEST POINT 40MIL DIA.
footprint TESTPOINT
footprint testpoint
footprint TESTPOINT
pins: 1 TP

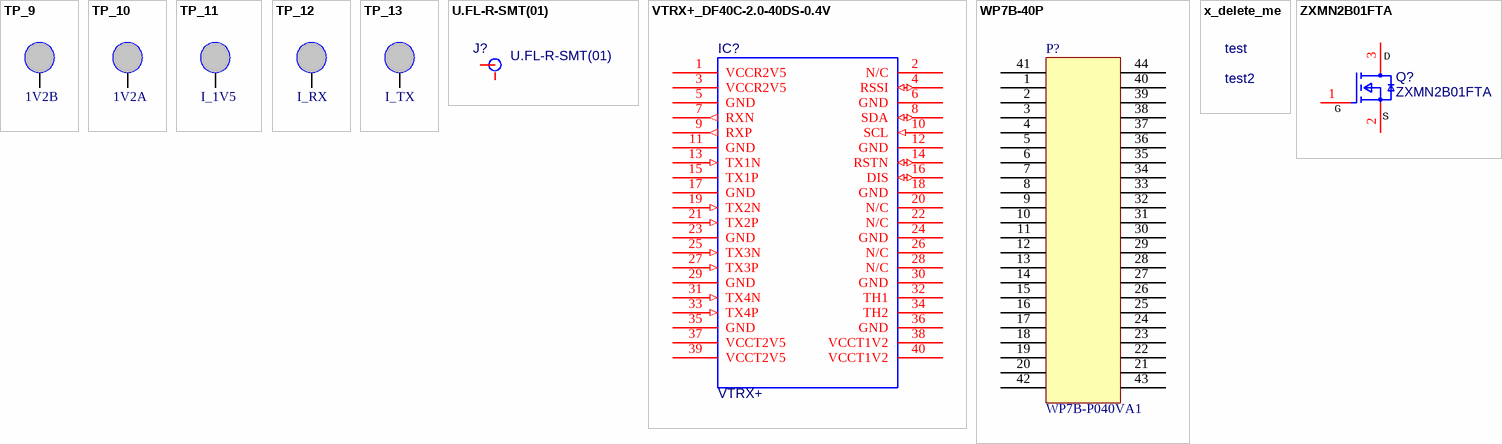
[diagram p3: symbols TP_9 to ZXMN2B01FTA]

## TP_9
designator TP?, comment 1V2B  (no BOM)
TEST POINT 40MIL DIA.
footprint TESTPOINT
footprint testpoint
footprint testpoint
footprint TESTPOINT
pins: 1 TP

## TP_10
designator TP?, comment 1V2A  (no BOM)
TEST POINT 40MIL DIA.
footprint TESTPOINT
footprint testpoint
footprint TESTPOINT
pins: 1 TP

## TP_11
designator TP?, comment I_1V5  (no BOM)
TEST POINT 40MIL DIA.
footprint TESTPOINT
footprint testpoint
footprint TESTPOINT
pins: 1 TP

## TP_12
designator TP?, comment I_RX  (no BOM)
TEST POINT 40MIL DIA.
footprint TESTPOINT
footprint testpoint
footprint TESTPOINT
pins: 1 TP

## TP_13
designator TP?, comment I_TX  (no BOM)
TEST POINT 40MIL DIA.
footprint TESTPOINT
footprint testpoint
footprint TESTPOINT
pins: 1 TP

## U.FL-R-SMT(01)
designator J?
CONN U.FL RCPT STR 50 OHM SMD; Manufacturer: TE Connectivity; Connector Mounting: PCBMount; Connector Body Style: StraightJack; Impedance: 50ohm; Coaxial Termination: Solder; SVHC: NoSVHC(15-Jun-2015); Frequency Max: 3GHz; Product Range: ZDCSeries; Connector Type: SMACoaxial; Datasheet Version: Rev. B1, 03/2011; Package Reference: 5-1814832-1; Package Description: SMA Connector, Pitch 5.08 mm, 1 Position, Height 9.5 mm, Tail Length 4 mm; Contact Plating: GoldPlatedContacts; Coaxial Cable Types: -; Contact Material: BerylliumCopper; Manufacturer URL: http://www.te.com/; Datasheet URL: http://www.onlinecomponents.com/productFiles/mf-AMP/eng_cd_1814832_a.pdf
footprint U.FL-R-SMT(01)
pins: 1, 2, 3, 4

## VTRX+_DF40C-2.0-40DS-0.4V
designator IC?, comment Parameter 1: VTRX+  (hidden comment: DF40C-40DS-0.4V)
VTRX+ module with 2.5mm stack Height.
footprint EDL-VTRX+ Module
footprint vtrx+
pins: 1 VCCR2V5 (power), 2 N/C, 3 VCCR2V5 (power), 4 RSSI (io), 5 GND, 6 GND, 7 RXN (out), 8 SDA (io), 9 RXP (out), 10 SCL (in), 11 GND, 12 GND, 13 TX1N (in), 14 RSTN (io), 15 TX1P, 16 DIS (io), 17 GND, 18 GND, 19 TX2N (in), 20 N/C, 21 TX2P (in), 22 N/C, 23 GND, 24 GND, 25 TX3N (in), 26 N/C, 27 TX3P (in), 28 N/C, 29 GND, 30 GND, 31 TX4N (in), 32 TH1, 33 TX4P (in), 34 TH2, 35 GND, 36 GND, 37 VCCT2V5 (power), 38 VCCT1V2 (power), 39 VCCT2V5 (power), 40 VCCT1V2 (power)

## WP7B-40P
designator P?, comment WP7B-P040VA1
plug
footprint wp7b-40p
pins: 1, 2, 3, 4, 5, 6, 7, 8, 9, 10, 11, 12, 13, 14, 15, 16, 17, 18, 19, 20, 21, 22, 23, 24, 25, 26, 27, 28, 29, 30, 31, 32, 33, 34, 35, 36, 37, 38, 39, 40, 41, 42, 43, 44

## x_delete_me
designator test, comment test2

## ZXMN2B01FTA
designator Q?
MOSFET N-CH 20V 2.1A SOT-23-3; ComponentLink2Description: Datasheet; ComponentLink2URL: https://www.diodes.com/assets/Datasheets/ZXMN2B01F.pdf
footprint SOT-23
pins: 1 Gate, 2 Source, 3 Drain
text: D; G; S